# Altium schematic symbol library I2C.SchLib: 3 symbols
Pins are listed as number, name and electrical type; pins without a type are passive.

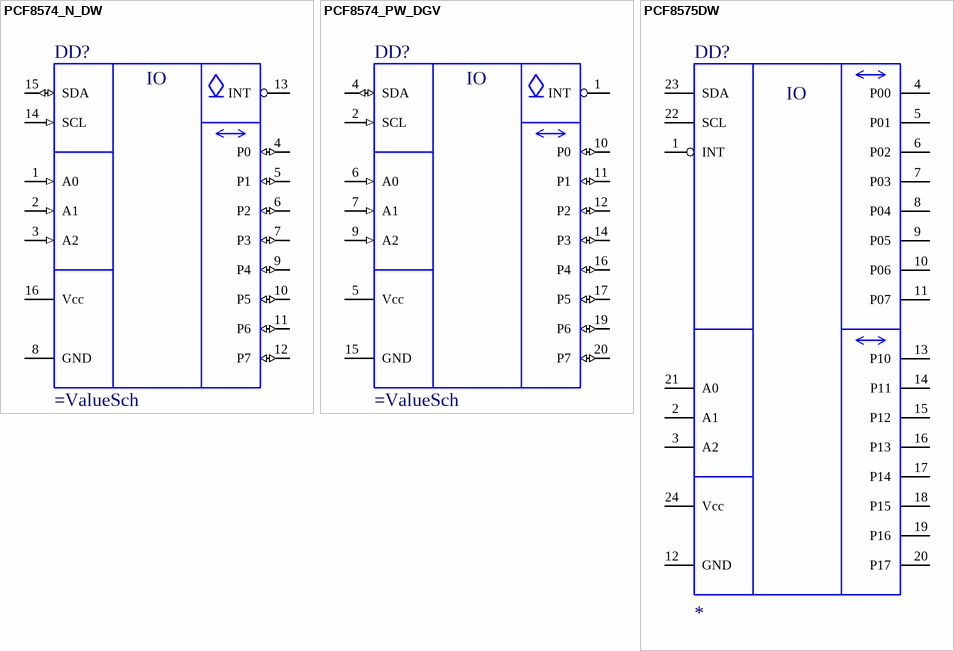
[diagram p0: symbols PCF8574_N_DW to PCF8575DW]

## PCF8574_N_DW
designator DD?
8-bit I/O Expander for I2C Bus
pins: 1 A0 (in), 2 A1 (in), 3 A2 (in), 4 P0 (io), 5 P1 (io), 6 P2 (io), 7 P3 (io), 8 GND (power), 9 P4 (io), 10 P5 (io), 11 P6 (io), 12 P7 (io), 13 INT (oc), 14 SCL (in), 15 SDA (io), 16 Vcc (power)
text: IO

## PCF8574_PW_DGV
designator DD?
8-bit I/O Expander for I2C Bus
pins: 1 INT (oc), 2 SCL (in), 4 SDA (io), 5 Vcc (power), 6 A0 (in), 7 A1 (in), 9 A2 (in), 10 P0 (io), 11 P1 (io), 12 P2 (io), 14 P3 (io), 15 GND (power), 16 P4 (io), 17 P5 (io), 19 P6 (io), 20 P7 (io)
text: IO

## PCF8575DW
designator DD?
PCF8575DW; Value: *
pins: 1 INT, 2 A1, 3 A2, 4 P00, 5 P01, 6 P02, 7 P03, 8 P04, 9 P05, 10 P06, 11 P07, 12 GND, 13 P10, 14 P11, 15 P12, 16 P13, 17 P14, 18 P15, 19 P16, 20 P17, 21 A0, 22 SCL, 23 SDA, 24 Vcc
text: IO